# Altium footprint library Connectors_SMD.PcbLib: 40 footprints (part 2 of 3)
Each footprint in its own frame and in the unit in brackets; x right, y up, seen from the top. Pads: shape width x height; smd on the part's side, far side on the other; paste and mask are expansions set on the pad; w line width, h text height; cw(c..) or ccw(c..) is an arc to the next point about the centre after c.
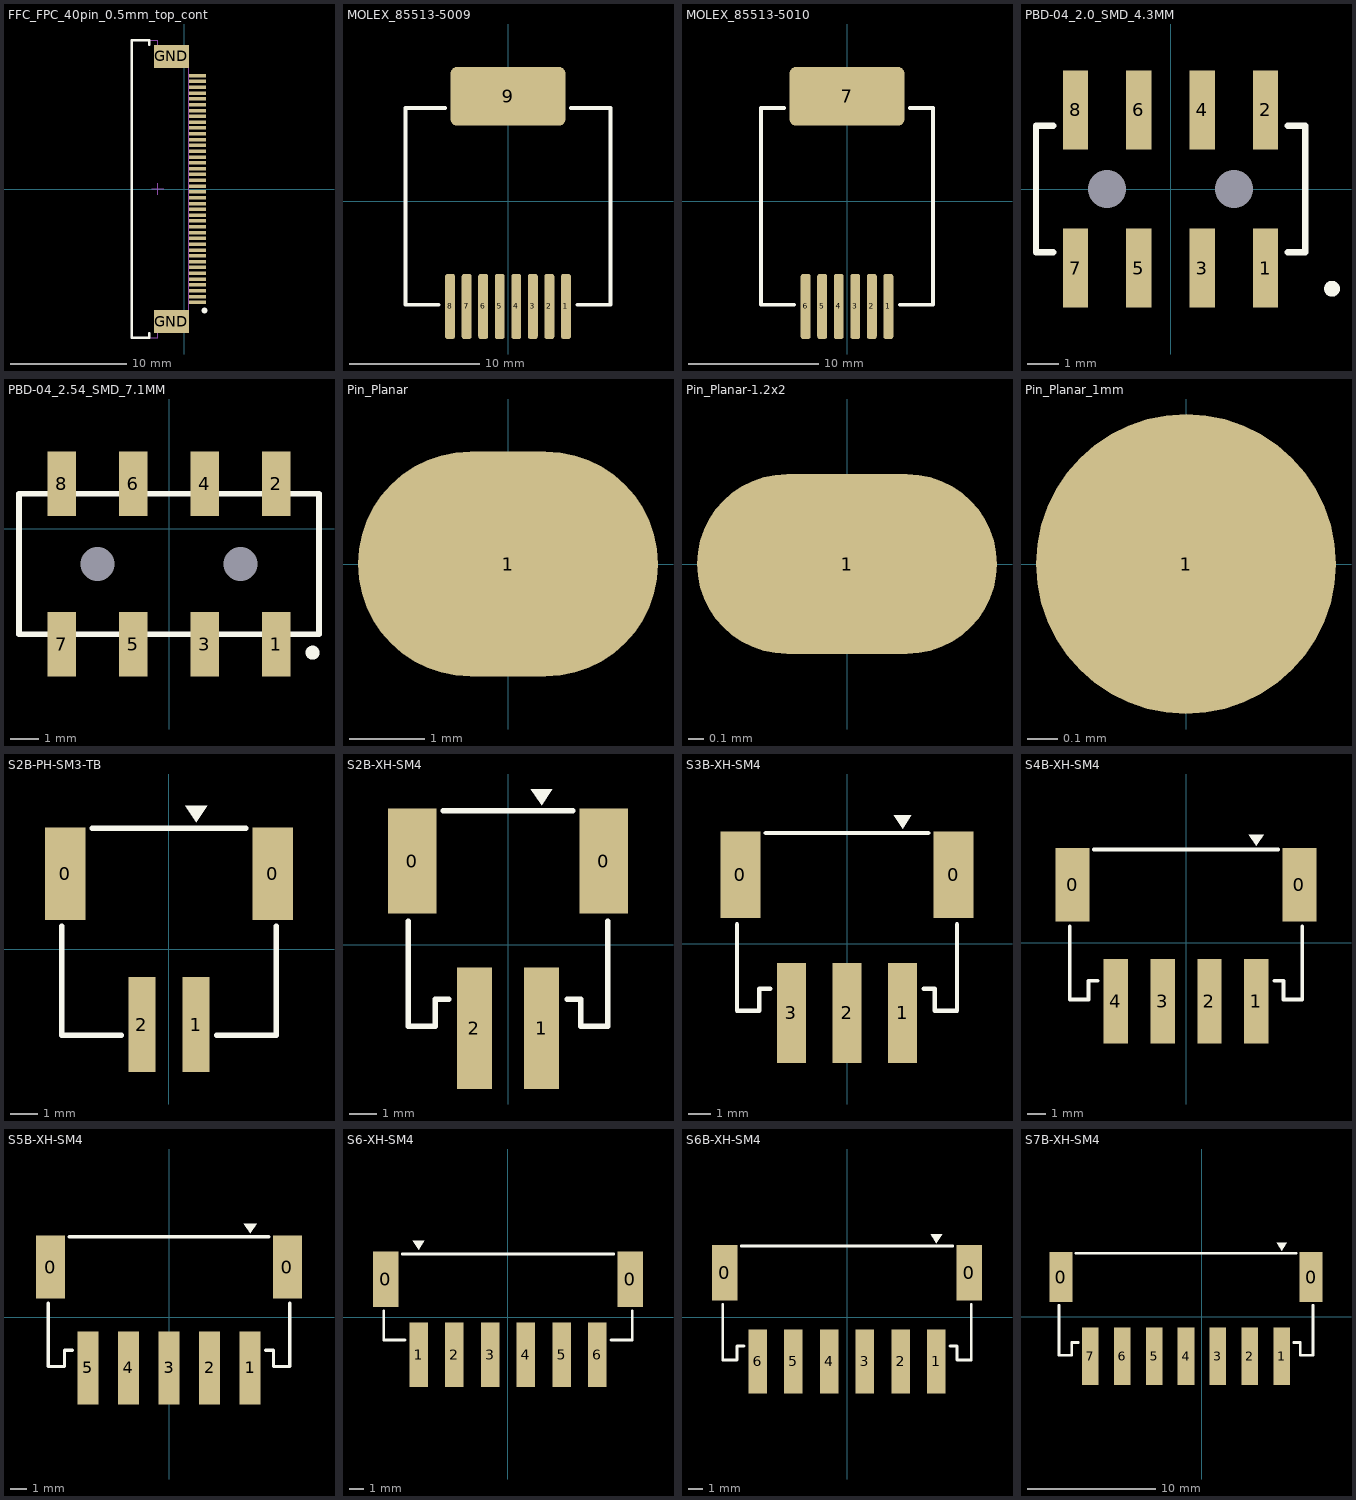
[diagram p1: the footprints below, top view; thin cyan lines are the x and y axes]

## FFC_FPC_40pin_0.5mm_top_cont [mm] "0.5mm FFC/FPC connector, 90° SMT type, ZIF, top contact style"
height 2
pads (42):
  rect 1.5x0.3 smd: 1(1.125,-9.75) 2(1.125,-9.25) 3(1.125,-8.75) 4(1.125,-8.25) 5(1.125,-7.75) 6(1.125,-7.25) 7(1.125,-6.75) 8(1.125,-6.25) 9(1.125,-5.75) 10(1.125,-5.25) 11(1.125,-4.75) 12(1.125,-4.25) 13(1.125,-3.75) 14(1.125,-3.25) 15(1.125,-2.75) 16(1.125,-2.25) 17(1.125,-1.75) 18(1.125,-1.25) 19(1.125,-0.75) 20(1.125,-0.25) 21(1.125,0.25) 22(1.125,0.75) 23(1.125,1.25) 24(1.125,1.75) 25(1.125,2.25) 26(1.125,2.75) 27(1.125,3.25) 28(1.125,3.75) 29(1.125,4.25) 30(1.125,4.75) 31(1.125,5.25) 32(1.125,5.75) 33(1.125,6.25) 34(1.125,6.75) 35(1.125,7.25) 36(1.125,7.75) 37(1.125,8.25) 38(1.125,8.75) 39(1.125,9.25) 40(1.125,9.75)
  rect 3x2 smd: GND(-1.125,-11.4) GND(-1.125,11.4)
Top Overlay:
  circle w0.25: c1.725,-10.45 r0.125
  lines w0.2: -3.025,-12.4 -3.025,-12.8 -4.525,-12.8 -4.525,12.8 -3.025,12.8 -3.025,12.4
Mechanical 13:
  lines w0.1: -4.525,-12.8 -4.525,12.8 -2.288,12.8 -2.288,12.25 0.375,12.25 0.375,-12.25 -2.288,-12.25 -2.288,-12.8 -4.525,-12.8
Mechanical 15:
  lines w0.05: -4.525,-12.8 -4.525,12.8 -2.288,12.8 -2.288,12.25 0.375,12.25 0.375,-12.25 -2.288,-12.25 -2.288,-12.8 -4.525,-12.8
  lines w0.1: -2.788,0 -1.788,0 ; -2.288,-0.5 -2.288,0.5
3D body: height 2, standoff 0.1, extent -3.025,-12.25 0.375,12.25
3D body: height 2, standoff 0.1, extent -4.525,-12.8 -3.025,12.8

## MOLEX_85513-5009 [mm] "Connector Tel-type 8P8C (Molex 85513)"
height 12.7
pads (9):
  rrect50% 0.76x5 smd: 1(4.445,-8.064) 2(3.175,-8.064) 3(1.905,-8.064) 4(0.635,-8.064) 5(-0.635,-8.064) 6(-1.905,-8.064) 7(-3.175,-8.064) 8(-4.445,-8.064)
  rrect20% 8.8x4.5 smd: 9(0,8.064)
Top Overlay:
  lines w0.3: -5.334,-7.938 -7.874,-7.938 -7.874,7.175 -4.826,7.175 ; 4.826,7.175 7.874,7.175 7.874,-7.938 5.334,-7.938
3D body "Molex_85513-5010.STEP": height 12.85, standoff 0, extent -6.605,-9.984 6.605,9.495

## MOLEX_85513-5010 [mm] "Connector Tel-type 6P6C (Molex 85513)"
height 12.7
pads (7):
  rrect50% 0.76x5 smd: 1(3.175,-8.064) 2(1.905,-8.064) 3(0.635,-8.064) 4(-0.635,-8.064) 5(-1.905,-8.064) 6(-3.175,-8.064)
  rrect20% 8.8x4.5 smd: 7(0,8.064)
Top Overlay:
  lines w0.3: -4.826,7.175 -6.604,7.175 -6.604,-7.938 -4.064,-7.938 ; 4.064,-7.938 6.604,-7.938 6.604,7.175 4.826,7.175
3D body "Molex_85513-5010.STEP": height 12.85, standoff 0, extent -6.605,-9.984 6.605,9.495

## PBD-04_2.0_SMD_4.3MM [mm]
height 4.6
pads (10):
  round 0 hole 1.2 unplated: 0(-2,0) 0(2,0)
  rect 0.8x2.5 smd: 1(3,-2.5) 2(3,2.5) 3(1,-2.5) 4(1,2.5) 5(-1,-2.5) 6(-1,2.5) 7(-3,-2.5) 8(-3,2.5)
Top Overlay:
  circle w0.25: c5.1,-3.15 r0.125
  lines w0.2: -3.7,-2 -4.25,-2 -4.25,2 -3.7,2 ; 3.7,-2 4.25,-2 4.25,2 3.7,2
3D body: height 0.5, standoff 0, extent 2.75,-1.5 3.25,-1.3
3D body: height 0.5, standoff 0, extent 0.75,-1.5 1.25,-1.3
3D body: height 0.5, standoff 0, extent -1.25,-1.5 -0.75,-1.3
3D body: height 0.5, standoff 0, extent -3.25,-1.5 -2.75,-1.3
3D body: height 0.5, standoff 0, extent -3.25,1.3 -2.75,1.5
3D body: height 0.5, standoff 0, extent -1.25,1.3 -0.75,1.5
3D body: height 0.5, standoff 0, extent 0.75,1.3 1.25,1.5
3D body: height 0.5, standoff 0, extent 2.75,1.3 3.25,1.5
3D body: height 4.6, standoff 0.3, extent 1.5,-1.5 2.5,1.5
3D body: height 4.6, standoff 0.3, extent -0.5,-1.5 0.5,1.5
3D body: height 4.6, standoff 0.3, extent -2.5,-1.5 -1.5,1.5
3D body: height 0.2, standoff 0, extent -3.25,1.5 -2.75,3.1
3D body: height 0.2, standoff 0, extent -1.25,1.5 -0.75,3.1
3D body: height 0.2, standoff 0, extent 0.75,1.5 1.25,3.1
3D body: height 0.2, standoff 0, extent 2.75,1.5 3.25,3.1
3D body: height 0.2, standoff 0, extent -3.25,-3.1 -2.75,-1.5
3D body: height 0.2, standoff 0, extent -1.25,-3.1 -0.75,-1.5
3D body: height 0.2, standoff 0, extent 0.75,-3.1 1.25,-1.5
3D body: height 0.2, standoff 0, extent 2.75,-3.1 3.25,-1.5
3D body: height 4.6, standoff 0.3, extent -4.25,-1.5 -3.5,1.5
3D body: height 4.6, standoff 0.3, extent -4.25,-0.5 4.25,0.5
3D body: height 4.6, standoff 0.3, extent 3.5,-1.5 4.25,1.5
3D body: height 4.6, standoff 0.3, extent -4.25,1.5 4.25,2
3D body: height 4.6, standoff 0.3, extent -4.25,-2 4.25,-1.5
3D body: height 0.6, standoff -0.7, extent -2.446,-0.449 -1.55,0.449
3D body: height 0.6, standoff -0.7, extent 1.554,-0.449 2.45,0.449

## PBD-04_2.54_SMD_7.1MM [mm]
height 7.6
pads (10):
  round 0 hole 1.2 unplated: 0(-2.54,-1.25) 0(2.54,-1.25)
  rect 1x2.3 smd: 1(3.81,-4.1) 2(3.81,1.6) 3(1.27,-4.1) 4(1.27,1.6) 5(-1.27,-4.1) 6(-1.27,1.6) 7(-3.81,-4.1) 8(-3.81,1.6)
Top Overlay:
  circle w0.25: c5.1,-4.4 r0.125
  lines w0.2: -5.33,-3.75 -5.33,1.25 5.33,1.25 5.33,-3.75 -5.33,-3.75
3D body: height 0.15, standoff 0, extent 3.545,-4.8 4.045,-3
3D body: height 0.15, standoff 0, extent 1.005,-4.8 1.505,-3
3D body: height 0.15, standoff 0, extent -1.505,-4.8 -1.005,-3
3D body: height 0.15, standoff 0, extent 3.545,0.5 4.045,2.3
3D body: height 0.15, standoff 0, extent 1.005,0.5 1.505,2.3
3D body: height 0.15, standoff 0, extent -1.505,0.5 -1.005,2.3
3D body: height 0.15, standoff 0, extent -4.045,0.5 -3.545,2.3
3D body: height 0.5, standoff 0, extent 3.545,0.35 4.045,0.5
3D body: height 7.6, standoff 0.5, extent -5.33,-1.7 5.33,-0.8
3D body: height 7.6, standoff 0.5, extent -3,-3.75 -2.1,1.25
3D body: height 7.6, standoff 0.5, extent -5.33,-3.75 -4.65,1.25
3D body: height 7.6, standoff 0.5, extent -0.45,-3.75 0.45,1.25
3D body: height 7.6, standoff 0.5, extent 2.1,-3.75 3,1.25
3D body: height 7.6, standoff 0.5, extent -5.33,-3.75 5.33,-2.95
3D body: height 7.6, standoff 0.5, extent -5.33,0.45 5.33,1.25
3D body: height 7.6, standoff 0.5, extent 4.65,-3.75 5.33,1.25
3D body: height 0.5, standoff 0, extent 1.005,-3 1.505,-2.85
3D body: height 0.5, standoff 0, extent -1.505,-3 -1.005,-2.85
3D body: height 0.5, standoff 0, extent -4.045,-3 -3.545,-2.85
3D body: height 0.15, standoff 0, extent -4.045,-4.8 -3.545,-3
3D body: height 0.5, standoff 0, extent 3.545,-3 4.045,-2.85
3D body: height 0.5, standoff 0, extent -4.045,0.35 -3.545,0.5
3D body: height 0.5, standoff 0, extent -1.505,0.35 -1.005,0.5
3D body: height 0.5, standoff 0, extent 1.005,0.35 1.505,0.5

## Pin_Planar [mm] "Площадка монтажная для светодиодной платы"
pads (1):
  oval 4x3 smd: 1(0,0)

## Pin_Planar-1.2x2 [mm] "Площадка монтажная платы"
pads (1):
  oval 2x1.2 smd: 1(0,0)

## Pin_Planar_1mm [mm]
pads (1):
  round 1 smd: 1(0,0)

## S2B-PH-SM3-TB [mm] "PH Header Male 2-Pin SMD, P=2.0mm, Horizontal"
height 5.5
pads (4):
  rect 1.5x3.4 smd: 0(-3.825,2.775) 0(3.825,2.775)
  rect 1x3.5 smd: 1(1,-2.775) 2(-1,-2.775)
Top Overlay:
  region: 1,4.675 1.4,5.275 0.6,5.275
  lines w0.2: -3.95,0.85 -3.95,-3.175 -1.75,-3.175 ; -2.825,4.45 2.825,4.45 ; 1.75,-3.175 3.95,-3.175 3.95,0.85
3D body "S2B-PH-SM4-TB.stp": height 4.8, standoff 0, extent -3.95,-4.15 3.95,4.45

## S2B-XH-SM4 [mm] "XH Header Male 2-Pin SMD, P=2.5mm, Horizontal"
height 6.2
pads (4):
  rect 1.8x3.9 smd: 0(-3.55,3.1) 0(3.55,3.1)
  rect 1.3x4.5 smd: 1(1.25,-3.1) 2(-1.25,-3.1)
Top Overlay:
  region: 1.25,5.175 1.65,5.775 0.85,5.775
  lines w0.2: -3.7,0.875 -3.7,-3.025 -2.7,-3.025 -2.7,-2.025 -2.2,-2.025 ; -2.4,4.975 2.4,4.975 ; 2.2,-2.025 2.7,-2.025 2.7,-3.025 3.7,-3.025 3.7,0.875
3D body "JST - XH - SMD (R) - 2Pin - 2.54mm.stp": height 5.92, standoff 0, extent -5.067,-4.931 5.067,4.975

## S3B-XH-SM4 [mm] "XH Header Male 3-Pin SMD, P=2.5mm, Horizontal"
height 6.2
pads (5):
  rect 1.8x3.9 smd: 0(-4.8,3.113) 0(4.8,3.113)
  rect 1.3x4.5 smd: 1(2.5,-3.1) 2(0,-3.1) 3(-2.5,-3.1)
Top Overlay:
  region: 2.5,5.188 2.9,5.788 2.1,5.788
  lines w0.2: -4.95,0.888 -4.95,-3.012 -3.95,-3.012 -3.95,-2.012 -3.45,-2.012 ; -3.65,4.988 3.65,4.988 ; 3.45,-2.012 3.95,-2.012 3.95,-3.012 4.95,-3.012 4.95,0.888
3D body "JST - XH - SMD (R) - 3Pin - 2.54mm.stp": height 5.92, standoff 0, extent -6.337,-4.918 6.337,4.988

## S4B-XH-SM4 [mm] "XH Header Male 4-Pin SMD, P=2.5mm, Horizontal"
height 6.2
pads (6):
  rect 1.8x3.9 smd: 0(-6.05,3.106) 0(6.05,3.106)
  rect 1.3x4.5 smd: 1(3.75,-3.106) 2(1.25,-3.106) 3(-1.25,-3.106) 4(-3.75,-3.106)
Top Overlay:
  region: 3.75,5.181 4.15,5.781 3.35,5.781
  lines w0.2: -6.2,0.881 -6.2,-3.019 -5.2,-3.019 -5.2,-2.019 -4.7,-2.019 ; -4.9,4.981 4.9,4.981 ; 4.7,-2.019 5.2,-2.019 5.2,-3.019 6.2,-3.019 6.2,0.881
3D body "JST - XH - SMD (R) - 4Pin - 2.54mm.stp": height 5.92, standoff 0, extent -7.607,-4.925 7.607,4.981

## S5B-XH-SM4 [mm] "XH Header Male 5-Pin SMD, P=2.5mm, Horizontal"
height 6.2
pads (7):
  rect 1.8x3.9 smd: 0(-7.3,3.106) 0(7.3,3.106)
  rect 1.3x4.5 smd: 1(5,-3.106) 2(2.5,-3.106) 3(0,-3.106) 4(-2.5,-3.106) 5(-5,-3.106)
Top Overlay:
  region: 5,5.181 5.4,5.781 4.6,5.781
  lines w0.2: -7.45,0.881 -7.45,-3.019 -6.45,-3.019 -6.45,-2.019 -5.95,-2.019 ; -6.15,4.981 6.15,4.981 ; 5.95,-2.019 6.45,-2.019 6.45,-3.019 7.45,-3.019 7.45,0.881
3D body "JST - XH - SMD (R) - 5Pin - 2.54mm.stp": height 5.92, standoff 0, extent -8.877,-4.925 8.877,4.981

## S6-XH-SM4 [mm] "XH Header Male 6-Pin SMD, P=2.5mm, Vertical"
height 8
pads (8):
  rect 1.8x3.9 smd: 0(-8.55,2.65) 0(8.55,2.65)
  rect 1.3x4.5 smd: 1(-6.25,-2.65) 2(-3.75,-2.65) 3(-1.25,-2.65) 4(1.25,-2.65) 5(3.75,-2.65) 6(6.25,-2.65)
Top Overlay:
  region: -6.25,4.725 -6.65,5.325 -5.85,5.325
  lines w0.2: -8.7,0.425 -8.7,-1.6 -7.2,-1.6 ; -7.4,4.4 7.4,4.4 ; 7.2,-1.6 8.7,-1.6 8.7,0.425
3D body: height 6.5, standoff 0, extent -6.6,1.7 -5.9,2.4
3D body: height 6.5, standoff 0, extent -4.1,1.7 -3.4,2.4
3D body: height 6.5, standoff 0, extent -1.6,1.7 -0.9,2.4
3D body: height 6.5, standoff 0, extent 0.9,1.7 1.6,2.4
3D body: height 6.5, standoff 0, extent 3.4,1.7 4.1,2.4
3D body: height 6.5, standoff 0, extent 5.9,1.7 6.6,2.4
3D body: height 7.8, standoff 1, extent -8.7,-1.6 8.7,-0.8
3D body: height 0.8, standoff 0, extent -6.6,-4.1 -5.9,-0.775
3D body: height 0.8, standoff 0, extent -4.1,-4.1 -3.4,-0.775
3D body: height 0.8, standoff 0, extent -1.6,-4.1 -0.9,-0.775
3D body: height 0.8, standoff 0, extent 0.9,-4.1 1.6,-0.775
3D body: height 0.8, standoff 0, extent 3.4,-4.1 4.1,-0.775
3D body: height 1, standoff 0, extent -8.7,-1.6 8.7,4.4
3D body: height 0.8, standoff 0, extent 5.9,-4.1 6.6,-0.775
3D body: height 7.8, standoff 1, extent -8.7,3.6 8.7,4.4
3D body: height 7.8, standoff 1, extent -8.7,-0.8 -7.9,3.6
3D body: height 7.8, standoff 1, extent 7.9,-0.8 8.7,3.6

## S6B-XH-SM4 [mm] "XH Header Male 6-Pin SMD, P=2.5mm, Horizontal"
height 6.2
pads (8):
  rect 1.8x3.9 smd: 0(-8.55,3.106) 0(8.55,3.106)
  rect 1.3x4.5 smd: 1(6.25,-3.106) 2(3.75,-3.106) 3(1.25,-3.106) 4(-1.25,-3.106) 5(-3.75,-3.106) 6(-6.25,-3.106)
Top Overlay:
  region: 6.25,5.181 6.65,5.781 5.85,5.781
  lines w0.2: -8.7,0.881 -8.7,-3.019 -7.7,-3.019 -7.7,-2.019 -7.2,-2.019 ; -7.4,4.981 7.4,4.981 ; 7.2,-2.019 7.7,-2.019 7.7,-3.019 8.7,-3.019 8.7,0.881
3D body "JST - XH - SMD (R) - 6Pin - 2.54mm.stp": height 5.92, standoff 0, extent -10.147,-4.925 10.147,4.981

## S7B-XH-SM4 [mm] "XH Header Male 7-Pin SMD, P=2.5mm, Horizontal"
height 6.2
pads (9):
  rect 1.8x3.9 smd: 0(-11.05,3.106) 0(8.55,3.106)
  rect 1.3x4.5 smd: 1(6.25,-3.106) 2(3.75,-3.106) 3(1.25,-3.106) 4(-1.25,-3.106) 5(-3.75,-3.106) 6(-6.25,-3.106) 7(-8.75,-3.106)
Top Overlay:
  region: 6.25,5.181 6.65,5.781 5.85,5.781
  lines w0.2: -11.2,0.881 -11.2,-3.019 -10.2,-3.019 -10.2,-2.019 -9.7,-2.019 ; -9.9,4.981 7.4,4.981 ; 7.2,-2.019 7.7,-2.019 7.7,-3.019 8.7,-3.019 8.7,0.881
3D body "JST - XH - SMD (R) - 7Pin - 2.54mm.stp": height 5.92, standoff 0, extent -12.667,-4.925 10.167,4.981